# EAGLE library part FPC_05 (library dawidkulpa_con)
5 pins FPC connector
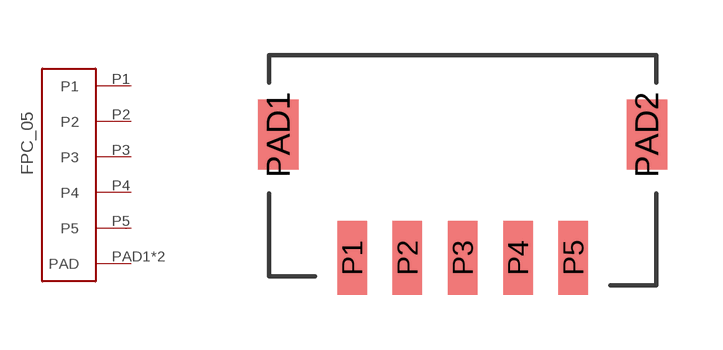
[diagram p8: symbol with the pads of S5B-SM4A; footprint S5B-SM4A]

Designator prefix -

## FPC_05  [S5B-SM4A]
P1  P1
P2  P2
P3  P3
P4  P4
P5  P5
PAD1  PAD
PAD2  PAD

## Footprint S5B-SM4A (pad centres in mm)
smd 0.8 x 2: P1 2,0; P2 3.5,0; P3 5,0; P4 6.5,0; P5 8,0
smd 1.1 x 1.9: PAD1 0,3.35; PAD2 10,3.35